# Altium footprint library Infineon Technologies Footprints.PcbLib: 65 footprints (part 5 of 5)
Each footprint in its own frame and in the unit in brackets; x right, y up, seen from the top. Pads: shape width x height; smd on the part's side, far side on the other; paste and mask are expansions set on the pad; w line width, h text height; cw(c..) or ccw(c..) is an arc to the next point about the centre after c.
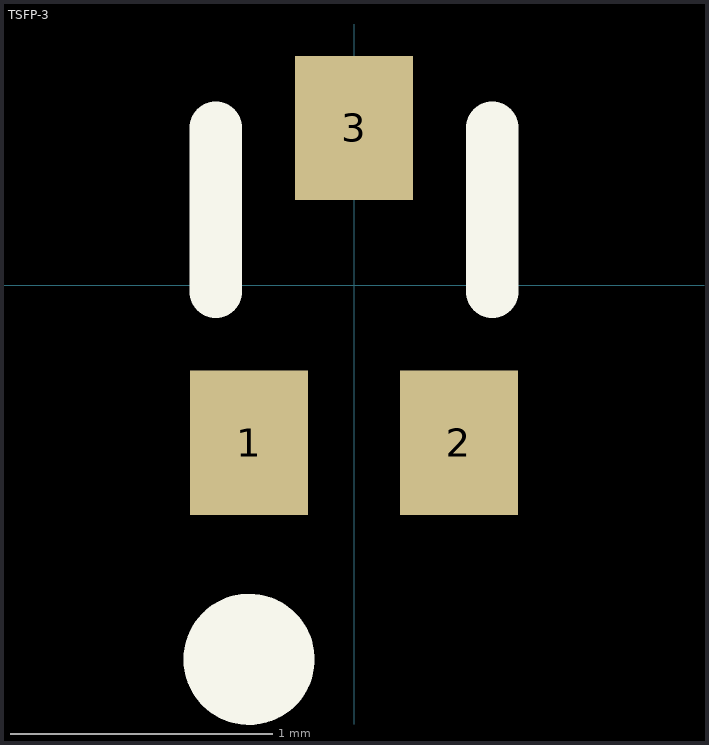
[diagram p4: the footprint, top view; thin cyan lines are the x and y axes]

## TSFP-3 [mm] "SM; 3 Flat Leads; Body 1.2 x 1.2 x 0.5 mm, inc leads (LxWxH typ)"
height 0.55
pads (3):
  rect 0.45x0.55 smd: 1(-0.4,-0.6) 2(0.4,-0.6) 3(0,0.6)
Top Overlay:
  circle w0.25: c-0.4,-1.425 r0.125
  lines w0.2: -0.526,-0.025 -0.526,0.6 ; 0.526,-0.025 0.526,0.6